# Altium schematic symbol library Displays.SchLib: 3 symbols
Pins are listed as number, name and electrical type; pins without a type are passive.

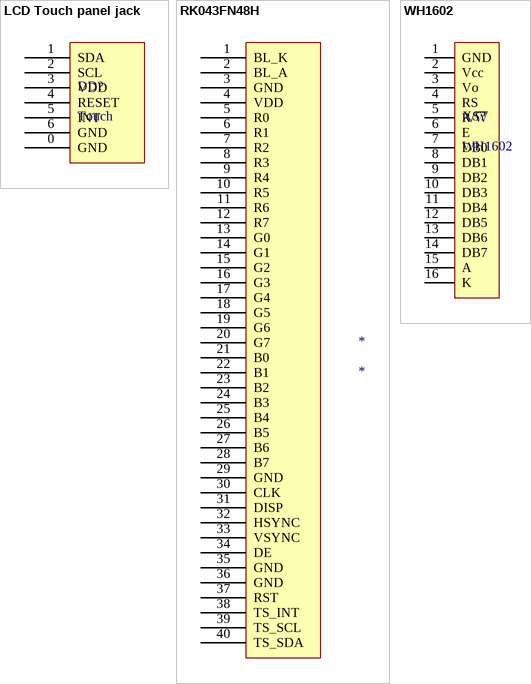
[diagram p0: symbols LCD Touch panel jack to WH1602]

## LCD Touch panel jack
designator DD?, comment Touch
footprint FPC-6
pins: 0 GND, 1 SDA, 2 SCL, 3 VDD, 4 RESET, 5 INT, 6 GND

## RK043FN48H
designator *
footprint FPC-40
pins: 1 BL_K, 2 BL_A, 3 GND, 4 VDD, 5 R0, 6 R1, 7 R2, 8 R3, 9 R4, 10 R5, 11 R6, 12 R7, 13 G0, 14 G1, 15 G2, 16 G3, 17 G4, 18 G5, 19 G6, 20 G7, 21 B0, 22 B1, 23 B2, 24 B3, 25 B4, 26 B5, 27 B6, 28 B7, 29 GND, 30 CLK, 31 DISP, 32 HSYNC, 33 VSYNC, 34 DE, 35 GND, 36 GND, 37 RST, 38 TS_INT, 39 TS_SCL, 40 TS_SDA

## WH1602
designator XS?
LCD display
footprint PLS-1-16
footprint WH1602
pins: 1 GND, 2 Vcc, 3 Vo, 4 RS, 5 R/~{W}, 6 E, 7 DB0, 8 DB1, 9 DB2, 10 DB3, 11 DB4, 12 DB5, 13 DB6, 14 DB7, 15 A, 16 K